# Altium footprint library DAYTON_CE40-28P-8.PcbLib: 1 footprints
Each footprint in its own frame and in the unit in brackets; x right, y up, seen from the top. Pads: shape width x height; smd on the part's side, far side on the other; paste and mask are expansions set on the pad; w line width, h text height; cw(c..) or ccw(c..) is an arc to the next point about the centre after c.
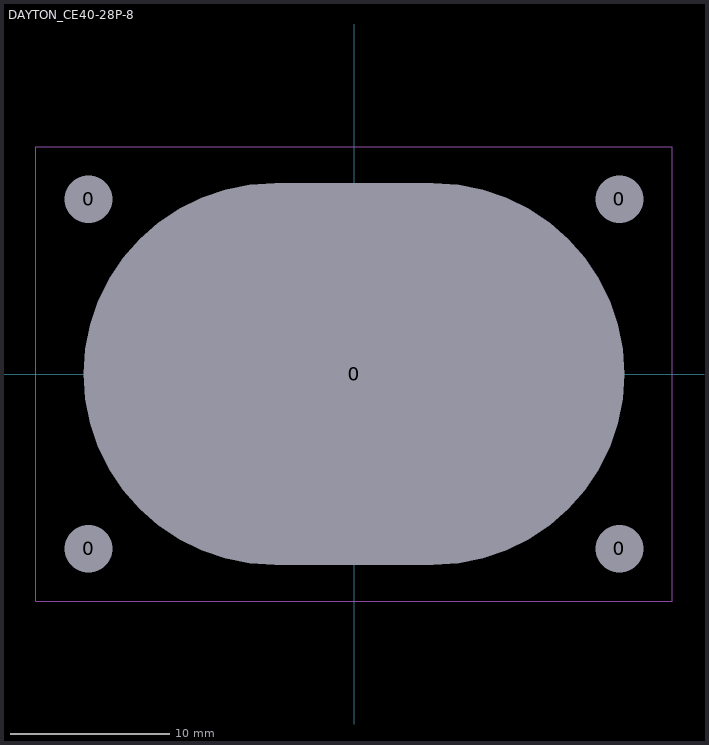
[diagram p0: the footprint, top view; thin cyan lines are the x and y axes]

## DAYTON_CE40-28P-8 [mm]
pads (5):
  round 1.524 hole 3: 0(-16.7,-11) 0(-16.7,11) 0(16.7,-11) 0(16.7,11)
  round 1.524 hole 24 slot 34 at 0 deg: 0(0,0)
Mechanical 15:
  lines w0.05: -0.508,0 0.508,0 ; 0,-0.508 0,0.508 ; -20.015,-14.3 20.015,-14.3 20.015,14.3 -20.015,14.3 -20.015,-14.3